# EAGLE library part PCA9546APW (library NXP)
NXP 1:4 I2C Multiplexer TSSOP16 package Part number: PCA9546APW
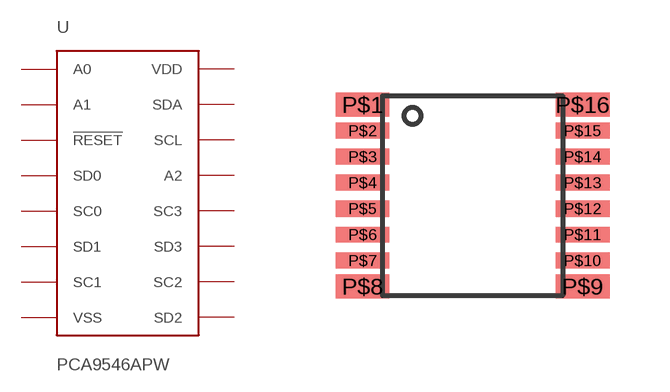
[diagram p41: symbol with the pads of TSSOP16; footprint TSSOP16]

Designator prefix -

## PCA9546APW  [TSSOP16]
P$1  A0
P$2  A1
P$3  !RESET!
P$4  SD0
P$5  SC0
P$6  SD1
P$7  SC1
P$8  VSS
P$9  SD2
P$10  SC2
P$11  SD3
P$12  SC3
P$13  A2
P$14  SCL
P$15  SDA
P$16  VDD

## Footprint TSSOP16 (pad centres in mm)
smd 1.35 x 0.6: P$1 -2.75,2.275; P$8 -2.75,-2.275; P$9 2.75,-2.275; P$16 2.75,2.275
smd 1.35 x 0.4: P$2 -2.75,1.625; P$3 -2.75,0.975; P$4 -2.75,0.325; P$5 -2.75,-0.325; P$6 -2.75,-0.975; P$7 -2.75,-1.625; P$10 2.75,-1.625; P$11 2.75,-0.975; P$12 2.75,-0.325; P$13 2.75,0.325; P$14 2.75,0.975; P$15 2.75,1.625